# Altium schematic symbol library Crystals.SchLib: 4 symbols
Pins are listed as number, name and electrical type; pins without a type are passive.

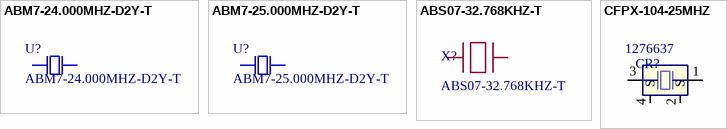
[diagram p0: symbols ABM7-24.000MHZ-D2Y-T to CFPX-104-25MHZ]

## ABM7-24.000MHZ-D2Y-T
designator U?
Crystal, 24 MHz, SMD; Supplier 1: Farnell; Supplier 2: Mouser; Supplier 3: RSComponents; Supplier Part Number 1: 2101333; Supplier Part Number 2: 815-ABM7-24-D2Y-T; Supplier Part Number 3: 1710293
footprint ABM7-25.000MHZ-D2Y-T (25MHz)
pins: 1, 2

## ABM7-25.000MHZ-D2Y-T
designator U?
Crystal, 25 MHz, SMD; Supplier 1: Farnell; Supplier 2: Mouser; Supplier Part Number 1: 2101328; Supplier Part Number 2: 815-ABM7-25-D2Y-T
footprint ABM7-25.000MHZ-D2Y-T (25MHz)
pins: 1, 2

## ABS07-32.768KHZ-T
designator X?
32.768 Hz
footprint ABS07-32.768KHZ-T
pins: 1, 2

## CFPX-104-25MHZ
designator CR?  Supplier Part Number 1: 1276637  (hidden comment: *)
Supplier 1: Farnell
footprint IQD cfpx-104--SON380P320X100-4N (IQD Crystal cfpx-104--SON, 4-Leads, Body 5.00x3.20mm, Pitch 3.80mm, IPC Medium Density)
pins: 1, 2 S, 3, 4 S